# Altium schematic symbol library MBR120.SCHLIB: 1 symbol
Pins are listed as number, name and electrical type; pins without a type are passive.

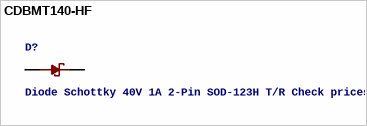
[diagram p0: symbol CDBMT140-HF]

## CDBMT140-HF
designator D?, comment Diode Schottky 40V 1A 2-Pin SOD-123H T/R Check prices
GateName_1: G$1; SymbolName_1: CDBMT140-HF; MF: Comchip Technology; Description: Diode Schottky 40V 1A (DC) Surface Mount SOD-123H; LibraryName: MBR120; DeviceSetName: CDBMT140-HF; Purchase-URL: https://pricing.snapeda.com/search/part/CDBMT140-HF/?ref=eda; Package: SOD-123 Comchip; Availability: Good; Price: None; MP: CDBMT140-HF
footprint SODFL3514X100N
pins: A, C